# Altium schematic symbol library RR511D1121.SchLib: 1 symbol
Pins are listed as number, name and electrical type; pins without a type are passive.

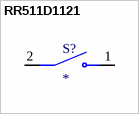
[diagram p0: symbol RR511D1121]

## RR511D1121
designator S?
MP: RR511D1121; MF: {'manufacturer': u'E-Switch'}; Availability: Unavailable; Value: *; Price: None; Package: None
footprint E-SWITCH_RR511D1121
pins: 1 NO, 2 COM